# Altium schematic symbol library Const_Cur_Source.SCHLIB: 63 symbols
Pins are listed as number, name and electrical type; pins without a type are passive.

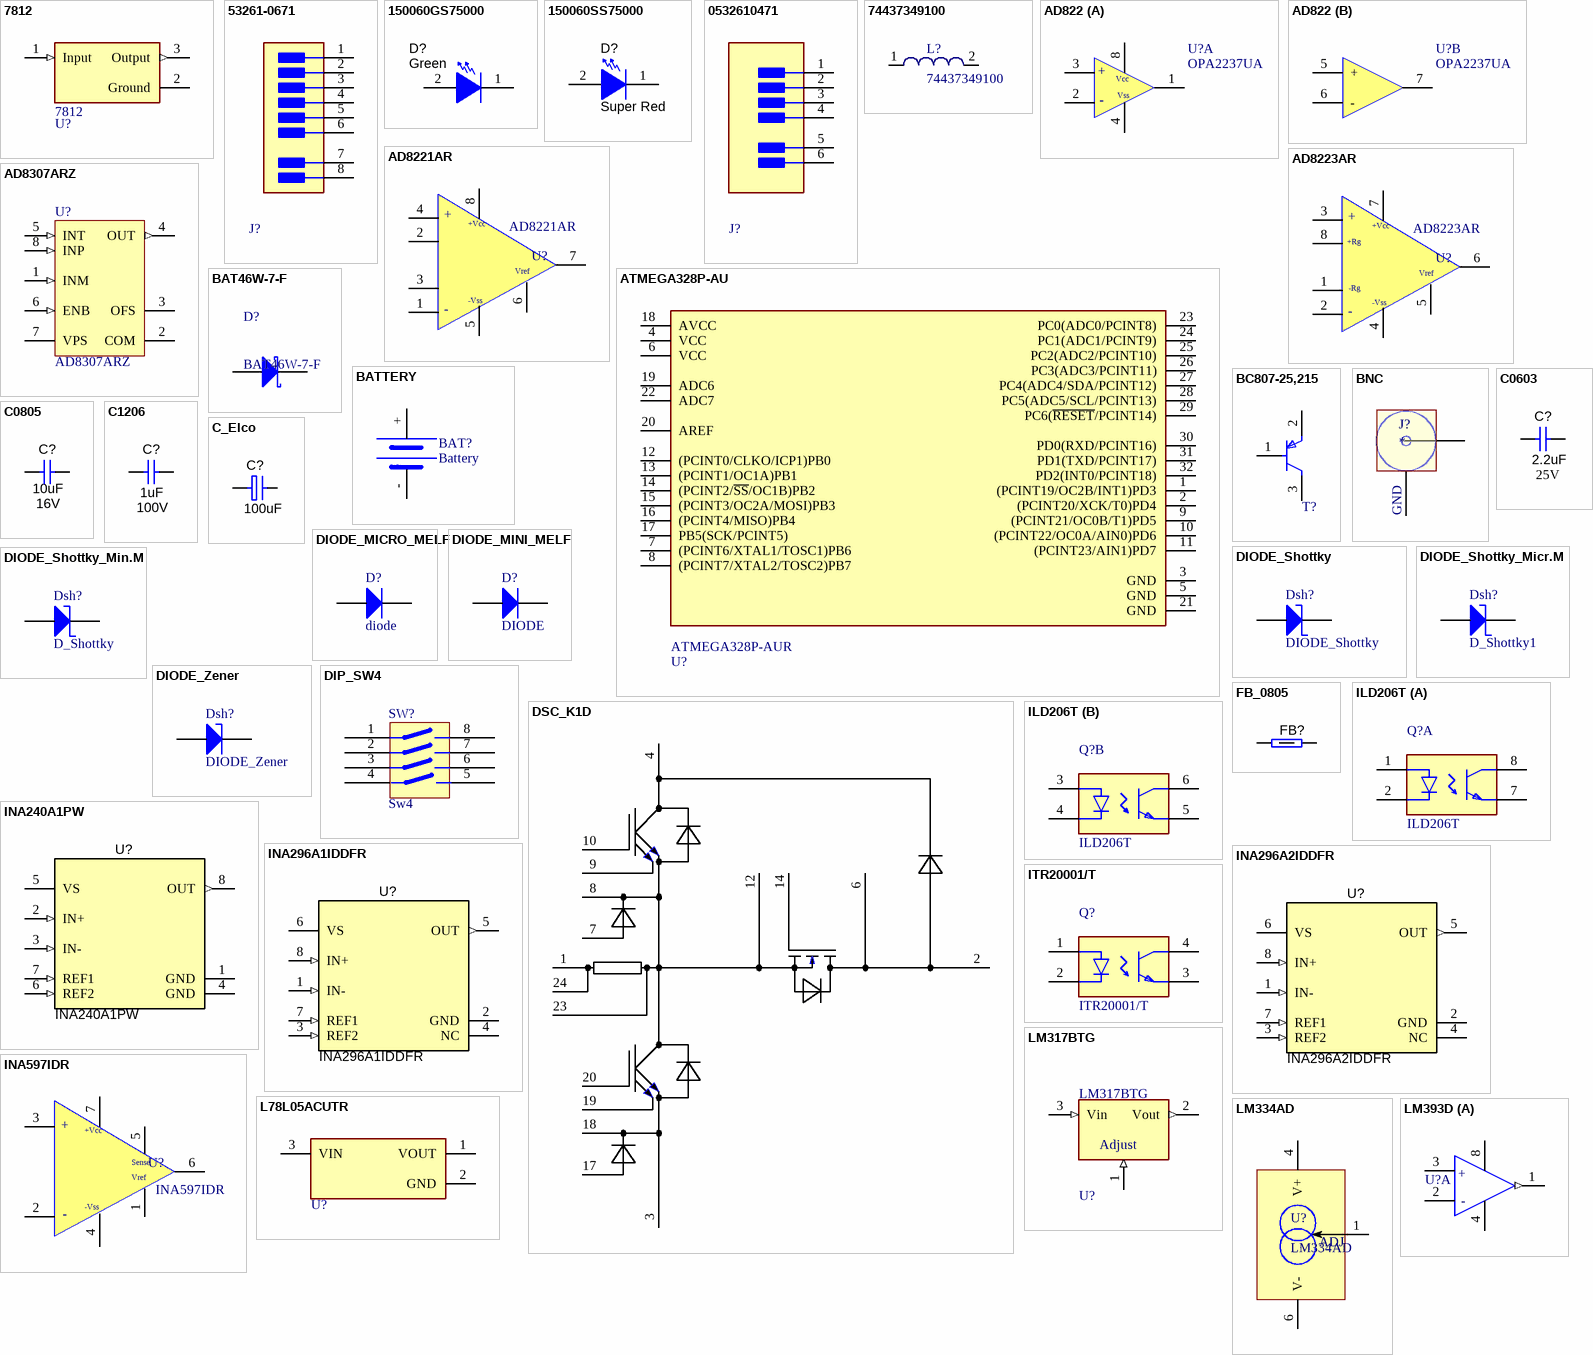
[diagram p0: symbols 7812 to LM393D]

## 7812
designator U?  (value not drawn)
footprint ON_Semi_221AB-01_0
pins: 1 Input (in), 2 Ground (power), 3 Output (out)

## 53261-0671
designator J?  (value not drawn)
footprint Molex_53261-0671_0
pins: 1, 2, 3, 4, 5, 6, 7 MNT 1, 8 MNT 2

## 150060GS75000
designator D?  value Green  (hidden comment: 150060GS75000)
LED, Green, SMD; Manufacturer: Wurth Elektronik; Type: InGaN; Vf_V: 3.2; Value2: 3.2V; Io_A: 0.02; Tjmax_C: 85; Value1: W; Angle: 140; U/M: EA; CompType: LED; PartNumber: 150060GS75000; SymbolVersion: 2008-11-06; MountType: SMT; RoHS: Y; PackageReference: LED_0603; Color: Green; Published: 2008-07-11; Publisher: Texas Instruments; ComponentLink1URL: http://katalog.we-online.de/led/datasheet/150060GS75000.pdf; ComponentLink1Description: Datasheet link; LatestRevisionDate: 2015-10-23; Supplier 1: Digi-Key; Supplier Part Number 1: 732-4971-1-ND; Supplier 2: Mouser; Supplier Part Number 2: 710-150060GS75000; Supplier 3: Farnell; Supplier Part Number 3: 2322070
signal-integrity model Diode
footprint WL-SMCW_GREEN
pins: 1 K, 2 A

## 150060SS75000
designator D?  value Super Red  (hidden comment: 150060SS75000)
LED, Super Red, SMD; Manufacturer: Wurth Elektronik; Type: AlInGaP; Vf_V: 1.9; Value2: 1.9V; Io_A: 0.02; Value1: W; U/M: EA; CompType: LED; PartNumber: 150060SS75000; SymbolVersion: 2008-11-06; MountType: SMT; RoHS: Y; PackageReference: LED_0603; Color: super red; Published: 2008-07-11; Publisher: Texas Instruments; ComponentLink1URL: http://katalog.we-online.de/led/datasheet/150060SS75000.pdf; ComponentLink1Description: Datasheet link; LatestRevisionDate: 2015-10-23; Supplier 1: Digi-Key; Supplier Part Number 1: 732-4979-1-ND
signal-integrity model Diode
footprint WL-SMCW_RED
pins: 1 K, 2 A

## 0532610471
designator J?  (value not drawn)
footprint Molex_0532610471_0
pins: 1, 2, 3, 4, 5 MNT 1, 6 MNT 2

## 74437349100
designator L?
SMD Power Inductor WE-LHMI, L=10 µH; Manufacturer: Wuerth Elektronik; Inductance: 10 ÂµH; ComponentLink1Description: Manufacturer URL; ComponentLink2Description: Datasheet; ComponentLink1URL: http://www.we-online.com; PartNumber: 74437349100; PackageReference: WE-LHMI 7050; ComponentLink2URL: http://katalog.we-online.de/kataloge/eisos/media/pdf/74437349100.pdf
footprint WE-LHMI 7050
pins: 1, 2

## AD822
designator U?  value OPA2237UA  (hidden comment: AD822)
Integrated Circuit
footprint SO-8
part A pins: 1 out, 2 nIn, 3 pIn, 4 Vss, 8 Vcc
part B pins: 5 +, 6 -, 7 Out

## AD8221AR
designator U?
Precision Instrumentation Amplifier; Value: AD8221AR
footprint RU-14 (Model Description)
footprint MSOP8
pins: 1 nIn, 2 Rg, 3 Rg, 4 pin, 5 Vss, 6 Vref, 7 out, 8 Vcc
text: +; +Vcc; -Vss; -

## AD8223AR
designator U?
Precision Instrumentation Amplifier; Value: AD8223AR
footprint RU-14 (Model Description)
footprint SO-8
pins: 1 Rg, 2 nIn, 3 pin, 4 Vss, 5 Vref, 6 out, 7 Vcc, 8 Rg
text: +; +Vcc; +Rg; -Rg; -Vss; -

## AD8307ARZ
designator U?
Low Cost, DC to 500 MHz, 92 dB Logarithmic Amplifier, 400ns Response Time, R-8, Pb-Free, 98 Tube; Voltage Supply (V): 2.7 to 5.5; Product Description: High Dynamic Range; Supply Current: 8mA; Temp Stability (dB): 1dB; Dynamic Range (dB): 92dB; ComponentLink1Description: Manufacturer URL; ComponentLink2Description: Datasheet; DatasheetVersion: Rev. D; ComponentLink3URL: http://www.analog.com/static/imported-files/packages/PKG_PDF/SOIC_Narrow%20(R)/R_8.pdf; ComponentLink3Description: Package Specification; ComponentLink1URL: www.analog.com; Response Time (ns typ): 400ns; PackageVersion: 060506-A; PackageReference: R-8; PackageDescription: 8-Lead Standard Small Outline Package [SOIC_N]; ComponentLink2URL: http://www.analog.com/static/imported-files/data_sheets/AD8307.pdf; RF Frequency (MHz): dc to 500; Code_JEDEC: MS-012-AA; PartNumber: AD8307ARZ
footprint ADI-R-8_M
footprint ADI-R-8_N
footprint ADI-R-8_L
pins: 1 INM (in) "Signal Input Minus Polarity. Normally at VPOS/2.", 2 COM (power) "Common Pin (Usually Grounded).", 3 OFS "Offset Adjustment. External capacitor connection.", 4 OUT (out) "Logarithmic (RSSI) Output Voltage. ROUT = 12.5 kohm.", 5 INT (in) "Intercept Adjustment, ï¿½ï¿½3 dB. (See the Slope and Intercept Adjustments section.)", 6 ENB (in) "CMOS-Compatible Chip Enable. Active when high.", 7 VPS (power) "Positive Supply: 2.7 V to 5.5 V.", 8 INP (in) "Signal Input Plus Polarity. Normally at VPOS/2. Due to the symmetrical nature of the response, there is no special significance to the sign of the two input pins. DC resistance from INP to INM = 1.1 kohm."

## ATMEGA328P-AU
designator U?  Part Number: ATMEGA328P-AUR
IC AVR AVR® ATmega Microcontroller IC 8-Bit 20MHz 32KB (16K x 16) FLASH 32-TQFP (7x7); Manufacturer: Atmel; Mfg Package Ident: 32A; Num Pins: 32; helpURL: https://upverter.com/upn/revision/4a46e9701fb05de6/; ComponentLink2Description: Datasheet; Temperature: -40°C to +85°C; Package: 32A; Supplier 2: Mouser; Supplier 1: Digi-Key; ComponentLink1URL: https://upverter.com/upn/revision/4a46e9701fb05de6/; Supplier Part Number 2: 556-ATMEGA328P-AUR; Supplier Part Number 1: ATMEGA328P-AURCT-ND; ComponentLink1Description: Upverter; ComponentLink2URL: http://www.mouser.com/ds/2/36/atmel-8271-8-bit-avr-microcontroller-atmega48a-48p-365589.pdf; RoHS: TRUE; Mouser Part Number: 556-ATMEGA328P-AUR; Ipc Land Pattern Name: QFP80P900X900X120-32; Temperature Range High: +85°C; Digikey Description: IC AVR AVR® ATmega Microcontroller IC 8-Bit 20MHz 32KB (16K x 16) FLASH 32-TQFP (7x7); Digikey Part Number: ATMEGA328P-AURCT-ND; Land Pattern: http://www.atmel.com/Images/Atmel-8826-SEEPROM-PCB-Mounting-Guidelines-Surface-Mount-Packages-ApplicationNote.pdf; Lead Free: yes; Temperature Range Low: -40°C
footprint ATMEGA328P-AU_0
pins: 1 (PCINT19/OC2B/INT1)PD3, 2 (PCINT20/XCK/T0)PD4, 3 GND, 4 VCC, 5 GND, 6 VCC, 7 (PCINT6/XTAL1/TOSC1)PB6, 8 (PCINT7/XTAL2/TOSC2)PB7, 9 (PCINT21/OC0B/T1)PD5, 10 (PCINT22/OC0A/AIN0)PD6, 11 (PCINT23/AIN1)PD7, 12 (PCINT0/CLKO/ICP1)PB0, 13 (PCINT1/OC1A)PB1, 14 (PCINT2/~{SS}/OC1B)PB2, 15 (PCINT3/OC2A/MOSI)PB3, 16 (PCINT4/MISO)PB4, 17 PB5(SCK/PCINT5), 18 AVCC, 19 ADC6, 20 AREF, 21 GND, 22 ADC7, 23 PC0(ADC0/PCINT8), 24 PC1(ADC1/PCINT9), 25 PC2(ADC2/PCINT10), 26 PC3(ADC3/PCINT11), 27 PC4(ADC4/SDA/PCINT12), 28 PC5(ADC5/SCL/PCINT13), 29 PC6(~{RESET}/PCINT14), 30 PD0(RXD/PCINT16), 31 PD1(TXD/PCINT17), 32 PD2(INT0/PCINT18)

## BAT46W-7-F
designator D?
Surface Mount Schottky Barrier Diode, 100 V, -55 to 125 degC, 2-Pin SOD123, RoHS, Tape and Reel; Manufacturer: Diodes Inc; CT@1 V: 12 pF Typ.; V(BR)R: 100 V Min.; IR@1.5 V: 0.3 uA Max.; VF@10 mA: 0.45 V Max.; ComponentLink1Description: Manufacturer URL; ComponentLink3Description: Package Specification; ComponentLink3URL: http://diodes.com/datasheets/ds30044.pdf; DatasheetVersion: Rev. 16-2; ComponentLink1URL: http://www.diodes.com/; Operating Temperature: -55 to 125 degC; Mounting Technology: Surface Mount; Packing: Tape and Reel; ComponentLink2Description: Datasheet; PartNumber: BAT46W-7-F; PackageDescription: 2-Pin SMD, Body 2.7 x 1.55 mm, Height 1.45 mm; ComponentLink2URL: http://diodes.com/datasheets/ds30044.pdf; RoHS: TRUE
footprint DIOD-SOD-123-2_V
footprint SOD-123-2_V (SOD-123, 2-Leads, Body 2.85x1.7mm (max), Pitch 3.7mm)
pins: 1 A, 2 K

## BATTERY
designator BAT?  value Battery
BATTERY Holder: 1854793; PartNumber: 1854793
pins: +, -

## BC807-25,215
designator T?  (value not drawn)
footprint SOT23_0
pins: 1 B, 2 E, 3 C

## BNC
designator J?
footprint SMA_EDGE
pins: 1, 2
text: GND

## C0603
designator C?  value 2.2uF  Value1: 25V
CAP, CERM, +/- 10%, X7R, 0603; Tolerance_%: 10; TaMin_C: -55; TaMax_C: 125; SizeArea_mm2: 1.28; SizeAreaWB_mm2: 4.68; SizeX_mm: 1.6; SizeY_mm: 0.8; SizeZ_mm: 1; PackageReference: 0603; MountType: SMT; Technology: Ceramic; TempCo: X7R
signal-integrity model Cap
simulation model Cap
footprint 0603
footprint 0603M
footprint 0603L
footprint 0603_HV
footprint 0603S
pins: 1, 2

## C0805
designator C?  value 10uF  Value1: 16V
CAP, CERM, +/- 10%, X7S,  0805; CompType: Capacitor; Tolerance_%: 10; SizeArea_mm2: 2.5; SizeAreaWB_mm2: 6.75; SizeX_mm: 2; SizeY_mm: 1.25; SizeZ_mm: 1.45; PackageReference: 0805; MountType: SMT; Technology: Ceramic; TempCo: X7S
signal-integrity model Cap
simulation model Cap
footprint 0805_HV
footprint 0805_HV1
footprint 0805
footprint 0805M
footprint 0805L
pins: 1, 2

## C1206
designator C?  value 1uF  Value1: 100V
CAP, CERM, NP0, 1206; Tolerance_%: 10; TempCo: X7R; TaMin_C: -55; TaMax_C: 125; SizeArea_mm2: 5.12; SizeAreaWB_mm2: 10.92; SizeX_mm: 3.2; SizeY_mm: 1.6; SizeZ_mm: 1.8; PackageReference: 1206; MountType: SMT; Technology: Ceramic
signal-integrity model Cap
simulation model Cap
footprint 1206_180
footprint 1206_180M
footprint 1206_180L
pins: 1, 2

## C_Elco
designator C?  value 100uF
CAP, Elco; Tolerance_%: 10; TempCo: X7R; TaMin_C: -55; TaMax_C: 125; SizeArea_mm2: 5.12; SizeAreaWB_mm2: 10.92; SizeX_mm: 3.2; SizeY_mm: 1.6; SizeZ_mm: 1.8; Value1: 100V; PackageReference: 1206; MountType: SMT; Technology: Ceramic
signal-integrity model Cap
simulation model Cap
footprint Elco_Flat_v1
footprint 1206_180M
footprint 1206_180L
pins: 1, 2

## DIODE_MICRO_MELF
designator D?  value diode
Diode
pins: A, K

## DIODE_MINI_MELF
designator D?  value DIODE
Diode
pins: A, K

## DIODE_Shottky
designator Dsh?  value DIODE_Shottky
Diode Shottky
pins: A, K

## DIODE_Shottky_Micr.M
designator Dsh?  value D_Shottky1
Diode Shottky
pins: A, K

## DIODE_Shottky_Min.M
designator Dsh?  value D_Shottky
Diode Shottky
pins: A, K

## DIODE_Zener
designator Dsh?
Diode Zener; Value: DIODE_Zener
pins: A, K

## DIP_SW4
designator SW?  value Sw4
Selectable Switch
footprint DIP-8-SW4 (Model Description)
pins: 1, 2, 3, 4, 5, 6, 7, 8

## DSC_K1D
designator ?
GateName_1: G$1; SymbolName_1: K1C; DeviceSetName: DSC_K1C; LibraryName: !IFX_MODUL_DSC; Package: K1C
footprint K1D_STANDING
pins: 1, 2, 3, 4, 6, 7, 8, 9, 10, 12, 14, 17, 18, 19, 20, 23, 24

## FB_0805
designator FB?
Ferite bred, 0805; Value1: 1%; SizeX_mm: 2; SizeY_mm: 1.25; SizeZ_mm: 0.75; PackageReference: 0805; MountType: SMT
signal-integrity model Resistor
simulation model Resistor
footprint 0805_HV
footprint 0805_HV
pins: 1, 2

## ILD206T
designator Q?  (value not drawn)
footprint Vishay_ILD206T_0
part A pins: 1 1 ANODE, 2 1 CATHODE, 7 E, 8 C
part B pins: 3 2 ANODE, 4 2 CATHODE, 5 E, 6 C

## INA240A1PW
designator U?
Wide Common-Mode Range, Voltage Output, High or Low-Side Bi-Directional Zero-Drift Current Shunt Monitor, PW0008A; Manufacturer: Texas Instruments; SymbolCreator: Altium; SizeArea_mm2: 19.2; SizeAreaWB_mm2: 42; SizeX_mm: 6.4; SizeY_mm: 3; SizeZ_mm: 1.2; CompType: IC; U/M: EA; PartNumber: INA240A1PW; PackageReference: PW0008A; PackageDescription: TSSOP-8; MountType: SMT; ComponentLink1Description: Datasheet Link; ComponentLink1URL: http://www.ti.com/lit/ds/symlink/ina240.pdf; Alternate Manufacturer: Texas Instruments
footprint PW0008A_N
footprint PW0008A_M
footprint PW0008A_L
pins: 1 GND (power), 2 IN+ (in), 3 IN- (in), 4 GND (power), 5 VS (power), 6 REF2 (in), 7 REF1 (in), 8 OUT (out)

## INA296A1IDDFR
designator U?
Wide Common-Mode Range, Voltage Output, High or Low-Side Bi-Directional Zero-Drift Current Shunt Monitor, -5-V to 110-V, 1.1-MHz 5-V/us; Manufacturer: Texas Instruments; SymbolCreator: Altium; CompType: IC; U/M: EA; PartNumber: INA296A1IDDFR; MountType: SMT; ComponentLink1Description: Datasheet Link; ComponentLink1URL: http://www.ti.com/lit/ds/symlink/ina240.pdf; Alternate Manufacturer: Texas Instruments
footprint PW0008A_N
footprint PW0008A_M
footprint PW0008A_L
footprint SOT23-8 (SOT23, 5-Leads, Body 2.9x1.6mm, Pitch 0.95mm, IPC Medium Density)
pins: 1 IN- (in), 2 GND (power), 3 REF2 (in), 4 NC (power), 5 OUT (out), 6 VS (power), 7 REF1 (in), 8 IN+ (in)

## INA296A2IDDFR
designator U?
Wide Common-Mode Range, Voltage Output, High or Low-Side Bi-Directional Zero-Drift Current Shunt Monitor, -5-V to 110-V, 1.1-MHz 5-V/us; Manufacturer: Texas Instruments; SymbolCreator: Altium; CompType: IC; U/M: EA; PartNumber: INA296A2IDDFR; MountType: SMT; ComponentLink1Description: Datasheet Link; ComponentLink1URL: http://www.ti.com/lit/ds/symlink/ina240.pdf; Alternate Manufacturer: Texas Instruments
footprint PW0008A_N
footprint PW0008A_M
footprint PW0008A_L
footprint SOT23-8 (SOT23, 5-Leads, Body 2.9x1.6mm, Pitch 0.95mm, IPC Medium Density)
pins: 1 IN- (in), 2 GND (power), 3 REF2 (in), 4 NC (power), 5 OUT (out), 6 VS (power), 7 REF1 (in), 8 IN+ (in)

## INA597IDR
designator U?
Difference Amplifier, High-Precision, Wide-Bandwidth; Value: INA597IDR
footprint RU-14 (Model Description)
footprint MSOP8
footprint SO-8
pins: 1 Vref, 2 nIn, 3 pin, 4 Vss, 5 Vref, 6 out, 7 Vcc
text: +; +Vcc; Sense; -Vss; -

## ITR20001/T
designator Q?  (value not drawn)
footprint Vishay_ILD206T_0
footprint ITR20001/t
pins: 1 1 ANODE, 2 1 CATHODE, 3 E, 4 C

## L78L05ACUTR
designator U?  (value not drawn)
footprint STMicroelectronics_SOT-89-7098166_MFG
pins: 1 VOUT (power), 2 GND (power), 3 VIN (power)

## LM317BTG
designator U?  (value not drawn)
Part Number: LM317BTG
footprint ON_Semi_221AB-01_0
pins: 1 Adjust (in), 2 Vout (out), 3 Vin (in)

## LM334AD
designator U?
Three terminal adjustable current source
footprint SO-8
pins: 1 ADJ, 4 V+, 6 V-

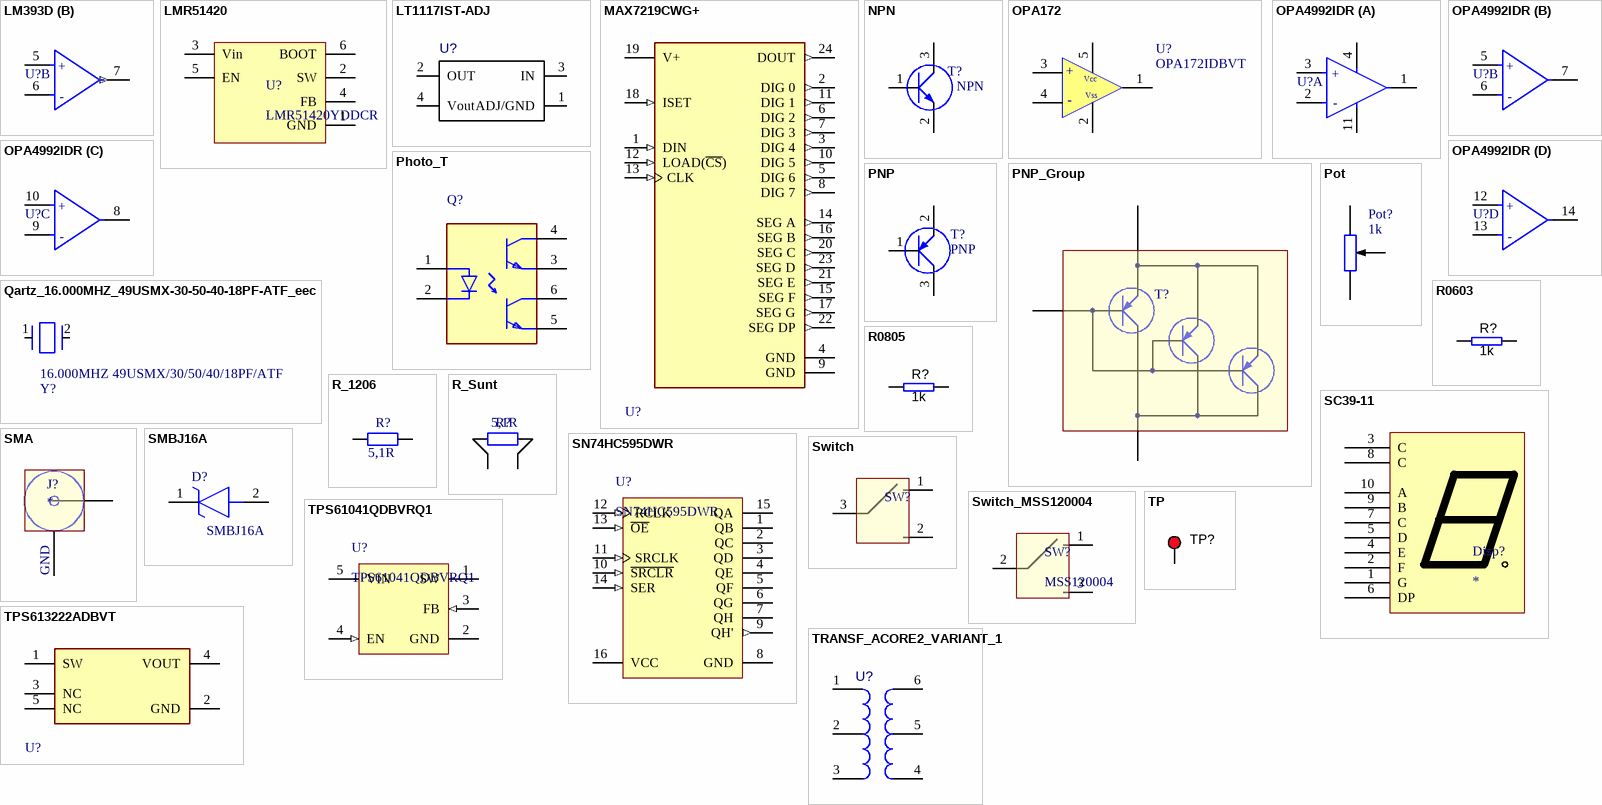
[diagram p1: symbols LM393D to TRANSF_ACORE2_VARIANT_1]

## LM393D
designator U?  (value not drawn)
footprint SO8_IPC_A
part A pins: 1 Out1 (out), 2 In1- (hiz), 3 In1+ (hiz), 4 Vcc- (power), 8 Vcc+ (power)
part B pins: 5 In2+ (hiz), 6 In2- (hiz), 7 Out2 (out)
part A text: +; -
part B text: +; -

## LMR51420
designator U?, comment LMR51420YDDCR
Synchronous Buck Converter, PFM Version; Value: LMR51420YDDCR
footprint DBV0006A_N
pins: 1 GND, 2 SW, 3 Vin, 4 FB, 5 EN, 6 BOOT

## LT1117IST-ADJ
designator U?  (value not drawn)
Value: *
footprint LT1117IST-ADJ
pins: 1 ADJ/GND, 2 OUT, 3 IN, 4 Vout

## MAX7219CWG+
designator U?  (value not drawn)
footprint Maxim_Integrated_W24-1_IPC_A
pins: 1 DIN (in), 2 DIG 0 (out), 3 DIG 4 (out), 4 GND (power), 5 DIG 6 (out), 6 DIG 2 (out), 7 DIG 3 (out), 8 DIG 7 (out), 9 GND (power), 10 DIG 5 (out), 11 DIG 1 (out), 12 LOAD(~{CS}) (in), 13 CLK (in), 14 SEG A (out), 15 SEG F (out), 16 SEG B (out), 17 SEG G (out), 18 ISET (in), 19 V+ (power), 20 SEG C (out), 21 SEG E (out), 22 SEG DP (out), 23 SEG D (out), 24 DOUT (out)

## NPN
designator T?  value NPN
Bipol. Transistor
pins: 1, 2, 3

## OPA172
designator U?, comment OPA172IDBVT
Operational Amplifier,Single-Supply, 10-MHz, Rail-to-Rail Output; Value: OPA172IDBVT
footprint SOT23-5 (SOT23, 5-Leads, Body 2.9x1.6mm, Pitch 0.95mm, IPC Medium Density)
pins: 1 out, 2 Vss, 3 pIn, 4 nIn, 5 Vcc
text: +; -

## OPA4992IDR
designator U?  (value not drawn)
footprint Texas_Instruments_D0014A_MFG
part A pins: 1 OUT1, 2 IN1- (hiz), 3 IN1+ (hiz), 4 V+ (power), 11 V- (power)
part B pins: 5 IN2+ (hiz), 6 IN2- (hiz), 7 OUT2
part C pins: 8 OUT3, 9 IN3- (hiz), 10 IN3+ (hiz)
part D pins: 12 IN4+ (hiz), 13 IN4- (hiz), 14 OUT4
part A text: +; -
part B text: +; -
part C text: +; -
part D text: +; -

## Photo_T
designator Q?  (value not drawn)
footprint Vishay_ILD206T_0
footprint ITR20001/t
footprint Photo_T
pins: 1 1 ANODE, 2 1 CATHODE, 3 E, 4 C, 5 E, 6 C

## PNP
designator T?  value PNP
Bipol. Transistor
pins: 1, 2, 3

## PNP_Group
designator T?
Bipol. Transistor
pins: 1, 2, 3

## Pot
designator Pot?, comment 1k
footprint Pot
pins: 1, 2, 3

## Qartz_16.000MHZ_49USMX-30-50-40-18PF-ATF_eec
designator Y?  Part Number: 16.000MHZ 49USMX/30/50/40/18PF/ATF
CRYS; Manufacturer: Euroquartz; Category 008Acd80318Bdb4D: Crystals/Resonators/Oscillators; frequency: 16 MHz; Category 7542B8484461Ae85: Passive Components; Category 9Afb57F1Abf5413C: Crystals; load_capacitance: 18 pF; Num Pins: 2; helpURL: https://upverter.com/upn/revision/05c5f50b0b55a54c/; ComponentLink2Description: Datasheet; Temperature: -40°C to +85°C; Package: SMT_XTAL_11MM35_3MM68; Supplier 2: Mouser; Supplier 1: Digi-Key; ComponentLink1URL: https://upverter.com/upn/revision/05c5f50b0b55a54c/; ComponentLink1Description: Upverter; ComponentLink2URL: https://upverter.com/datasheet/0b0a610900101a63fb5a28c721a8a2dd099ef9d5.pdf; RoHS: TRUE; Temperature Range High: +85°C; Digikey Description: CRYS; Lead Free: yes; Temperature Range Low: -40°C; Octopart Part Number: 45978c55d5b29a50
footprint Euroquartz_16.000MHZ_49USMX-30-50-40-18PF-ATF_0
footprint Quartz_16.000MHZ_49USMX-30-50-40-18PF-ATF_0
pins: 1, 2

## R0603
designator R?  value 1k
RES, 1%, 0.1 W, 0603; SizeX_mm: 1.6; SizeY_mm: 0.8; SizeZ_mm: 1; PackageReference: 0603; Value1: 1%; MountType: SMT
signal-integrity model Resistor
simulation model Resistor
footprint 0603
footprint 0603M
footprint 0603L
footprint 0603_HV
footprint 0603S
pins: 1, 2

## R0805
designator R?  value 1k
RES, 1%, 0.1 W, 0805; SizeX_mm: 2; SizeY_mm: 1.25; SizeZ_mm: 0.75; PackageReference: 0805; Value1: 1%; MountType: SMT
signal-integrity model Resistor
simulation model Resistor
footprint 0805_HV
footprint 0805_HV
pins: 1, 2

## R_1206
designator R?, comment value 5,1R  (hidden comment: Res_1206)
Resistor 1206 1%; Manufacturer: MULTICOMP; Tolerance: %; NominalVoltage: 200V; PackageReference: 1206; Supplier1Number: 2695113; Supplier1: Farnell
footprint Resistor_1206
footprint Resistor_1206
pins: 1, 2

## R_Sunt
designator R?, comment value 5,1R  (hidden comment: Res_1206)
Resistor 1206 1%; Manufacturer: MULTICOMP; Tolerance: %; NominalVoltage: 200V; PackageReference: 1206; Supplier1Number: 2695113; Supplier1: Farnell
footprint Resistor_1206
footprint R_DIP_Shunt
pins: 1, 2, 3, 4

## SC39-11
designator Disp?
SC 39-11 GN
footprint 7-Segment-LED  (SC39-11G)
pins: 1 G, 2 F, 3 C, 4 E, 5 D, 6 DP, 7 C, 8 C, 9 B, 10 A

## SMA
designator J?
footprint SMA_Standing
pins: 1, 2
text: GND

## SMBJ16A
designator D?
TVS Diode; Manufacturer_Name: Bourns; Manufacturer_Part_Number: SMBJ16CA; Datasheet Link: https://componentsearchengine.com/Datasheets/2/SMBJ16CA.pdf; Height: 2.61mm; Mouser Part Number: 652-SMBJ16CA; Mouser Price/Stock: https://www.mouser.co.uk/ProductDetail/Bourns/SMBJ16CA?qs=d7fLapxX37HIDtp0KgHIow%3D%3D; Arrow Part Number: SMBJ16CA; Arrow Price/Stock: https://www.arrow.com/en/products/smbj16ca/bourns
footprint SMBJ_MFG
pins: 1, 2

## SN74HC595DWR
designator U?
8-Bit Shift Registers With 3-State Output Registers, DW0016A, LARGE T&R; Technology Family: HC; VCC(Min)(V): 2; Input Type: CMOS; Bits: 8; F @ Nom Voltage(Max)(Mhz): 28; Rating: Military; VCC(Max)(V): 6; ICC @ Nom Voltage(Max)(mA): 0.08; Output Drive (IOL/IOH)(Max)(mA): 7.8/-7.8; tpd @ Nom Voltage(Max)(ns): 34; 3-State Output: Yes; Operating Temperature Range(C): -40 to 85; Code_IPC: MS-013 variation AA; PartNumber: SN74HC595DWR; ComponentLink1Description: Manufacturer URL; ComponentLink2Description: Datasheet; DatasheetVersion: SCLS041H; ComponentLink1URL: http://www.ti.com/; Output Type: CMOS; ComponentLink2URL: http://www.ti.com/lit/ds/symlink/sn74hc595.pdf; PackageReference: DW0016A; PackageVersion: http://www.ti.com/lit/ml/msoi003g/msoi003g.pdf; Part Number: SN74HC595; Voltage(Nom)(V): 6
footprint DW0016A_L
footprint DW0016A_M
footprint DW0016A_N
footprint SO16-D0016A_IPC_A
pins: 1 QB (hiz) "QB Output", 2 QC (hiz) "QC Output", 3 QD (hiz) "QD Output", 4 QE (hiz) "QE Output", 5 QF (hiz) "QF Output", 6 QG (hiz) "QG Output", 7 QH (hiz) "QH Output", 8 GND (power) "Ground Pin", 9 QH' (out) "QH' Output", 10 ~{SRCLR} (in) "S\R\C\L\R\ Input", 11 SRCLK (in) "SRCLK Input", 12 RCLK (in) "RCLK Input", 13 ~{OE} (in) "Output Enable Pin", 14 SER (in) "SER Input", 15 QA (hiz) "QA Output", 16 VCC (power) "Power Pin"

## Switch
designator SW?
footprint 3-pin
pins: 1, 2, 3

## Switch_MSS120004
designator SW?, comment MSS120004
MSS120004 - Schiebeschalter
footprint MSS120004_Switch
pins: 1, 2, 3

## TP
designator TP?, comment 5000  (value not drawn)
Test Point, Miniature, Red, TH; Manufacturer: Keystone; CNHeader: FALSE; ContactFinish: Silver; CT: TRUE; Green_Lifecycle: Active; Green_REACh: Passed; PartNumber: 5000; PackageReference: Red Miniature Testpoint; CompType: Test Point; RoHS: Y; MountType: TH; ComponentLink1Description: Datasheet URL; ComponentLink1URL: http://www.keyelco.com/userAssets/file/M60-2p60.pdf; Publisher: Texas Instruments; LatestRevisionDate: 26/05/2017; Supplier 1: Digi-Key; Supplier Part Number 1: 36-5000-ND; Supplier 2: Mouser; Supplier Part Number 2: 534-5000; Color: Red; Green_EU RoHS-2: Incomplete; Green_EU RoHS: Passed
footprint Keystone5000 (For Keystone 500x miniature loop terminals)
pins: 1

## TPS61041QDBVRQ1
designator U?
Automotive Catalog Low Power DC / DC Boost Conveter, 1.8 to 6 V, -40 to 125 degC, 5-pin SOT23 (DBV5), Green (RoHS & no Sb/Br); Manufacturer: Texas Instruments; Iq(Typ)(mA): 0.028; Vin(Min)(V): 1.8; SubFamily: White LED Driver; Dimming: TRUE; Vin(Max)(V): 6; Switching Frequency(Max)(kHz): 1000; Iout(Max)(A): 0.05; Topology: Boost; Eco-Plan: Green (RoHS & no Sb/Br); PartNumber: TPS61041QDBVRQ1; ComponentLink1Description: Manufacturer URL; ComponentLink2Description: Datasheet; DatasheetVersion: SGLS276C; ComponentLink3URL: http://www.ti.com/litv/pdf/mpds018i; ComponentLink1URL: http://www.ti.com/; Code_JEDEC: MO-178; ComponentLink2URL: http://www.ti.com/general/docs/lit/getliterature.tsp?genericPartNumber=TPS61041-Q1&fileType=pdf; ComponentLink3Description: Package Specification; PackageVersion: 4073253-4/K; Rating: Automotive; Mounting Technology: Surface Mount; PackageReference: DBV5; PackageDescription: 5-Pin Plastic Small Outline, Body 1.60 Ãƒâ€” 2.90 mm, Pitch 0.95 mm
footprint Texas_Instruments_DBV0005A_MFG
footprint TI-DBV5_L
footprint TI-DBV5_M
pins: 1 SW (power) "Connect the inductor and the Schottky diode to this pin. This is the switch pin and is connected to the drain of the internal power MOSFET.", 2 GND (power) "Ground", 3 FB (in) "This is the feedback pin of the device. Connect this pin to the external voltage divider to program the desired output voltage.", 4 EN (in) "This is the enable pin of the device. Pulling this pin to ground forces the device into shutdown mode reducing the supply current to less than 1 µA. This pin should not be left floating and needs to be terminated.", 5 VIN (power) "Supply voltage pin"

## TPS613222ADBVT
designator U?  (value not drawn)
footprint Texas_Instruments_DBV0005A_MFG
pins: 1 SW, 2 GND (power), 3 NC, 4 VOUT (power), 5 NC

## TRANSF_ACORE2_VARIANT_1
designator U?, comment TRANSF_ACORE2  (value not drawn)
TRANSF_ACORE2_VARIANT_1; Value: *
footprint TRANSF_ACORE
pins: 1 P1, 2 S2, 3 P3, 4 S4, 5 S5, 6 S6